# EAGLE library part ATSAM3S (library imu)
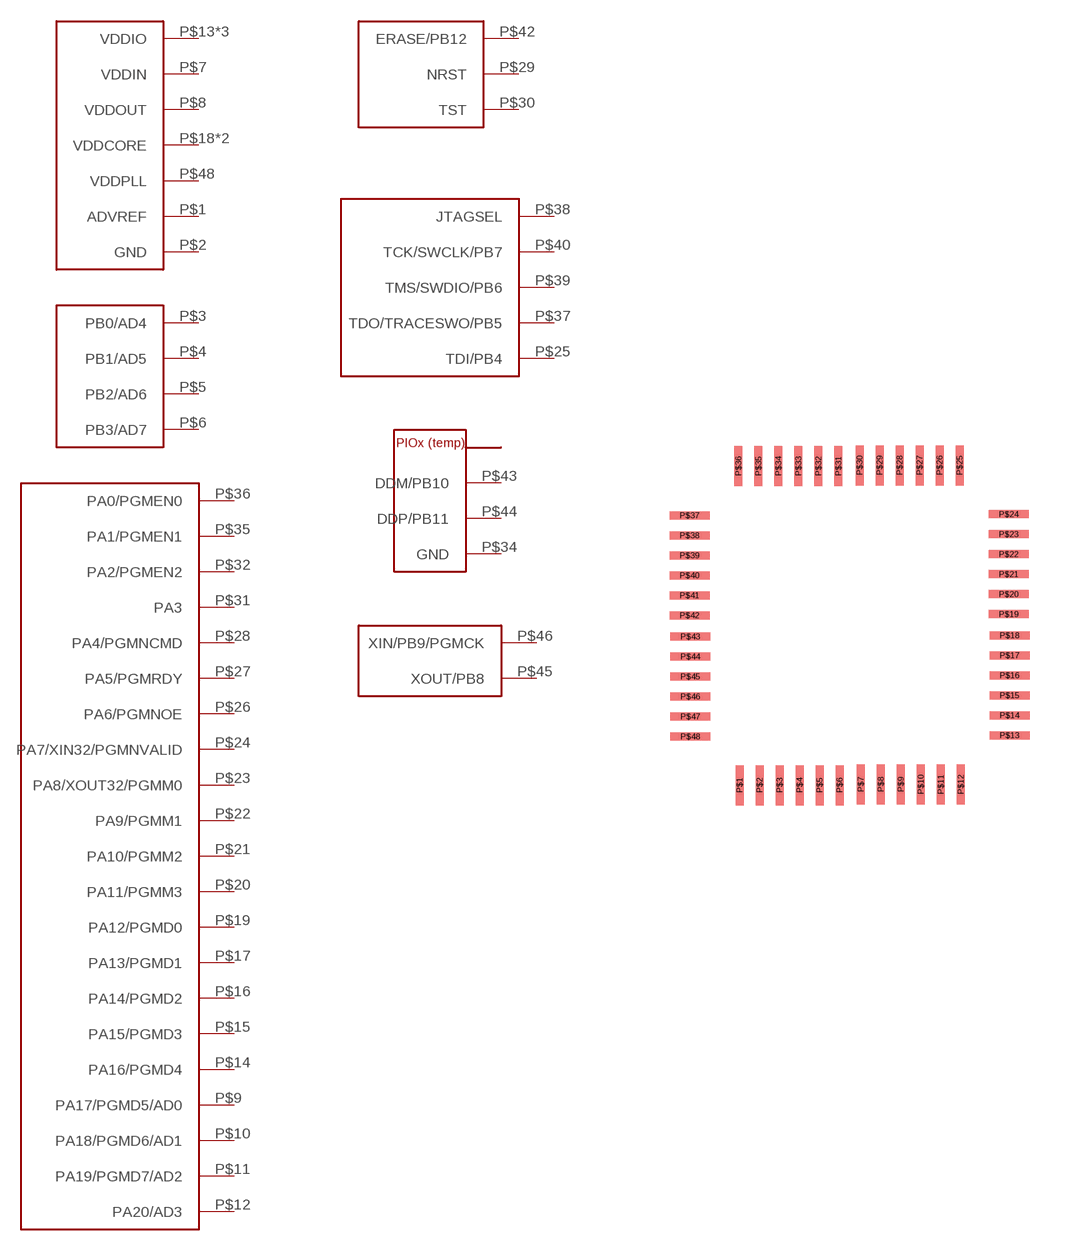
[diagram p2: symbol with the pads of 48-LQFP; footprint 48-LQFP]

Designator prefix -; gates G$1=ATSAM3S G$2=ATSAM3S1 G$3=ATSAM3S2 G$4=ATSAM3S3 G$5=ATSAM3S4MISC G$6=ATSAM3S6USB G$7=ATSAM3S5CLOCK

## ATSAM3S  [48-LQFP]
P$1  G$1:ADVREF
P$2  G$1:GND
P$3  G$2:PB0/AD4
P$4  G$2:PB1/AD5
P$5  G$2:PB2/AD6
P$6  G$2:PB3/AD7
P$7  G$1:VDDIN
P$8  G$1:VDDOUT
P$9  G$3:PA17/PGMD5/AD0
P$10  G$3:PA18/PGMD6/AD1
P$11  G$3:PA19/PGMD7/AD2
P$12  G$3:PA20/AD3
P$13  G$1:VDDIO
P$14  G$3:PA16/PGMD4
P$15  G$3:PA15/PGMD3
P$16  G$3:PA14/PGMD2
P$17  G$3:PA13/PGMD1
P$18  G$1:VDDCORE
P$19  G$3:PA12/PGMD0
P$20  G$3:PA11/PGMM3
P$21  G$3:PA10/PGMM2
P$22  G$3:PA9/PGMM1
P$23  G$3:PA8/XOUT32/PGMM0
P$24  G$3:PA7/XIN32/PGMNVALID
P$25  G$4:TDI/PB4
P$26  G$3:PA6/PGMNOE
P$27  G$3:PA5/PGMRDY
P$28  G$3:PA4/PGMNCMD
P$29  G$5:NRST
P$30  G$5:TST
P$31  G$3:PA3
P$32  G$3:PA2/PGMEN2
P$33  G$1:VDDIO
P$34  G$6:GND
P$35  G$3:PA1/PGMEN1
P$36  G$3:PA0/PGMEN0
P$37  G$4:TDO/TRACESWO/PB5
P$38  G$4:JTAGSEL
P$39  G$4:TMS/SWDIO/PB6
P$40  G$4:TCK/SWCLK/PB7
P$41  G$1:VDDCORE
P$42  G$5:ERASE/PB12
P$43  G$6:DDM/PB10
P$44  G$6:DDP/PB11
P$45  G$7:XOUT/PB8
P$46  G$7:XIN/PB9/PGMCK
P$47  G$1:VDDIO
P$48  G$1:VDDPLL

## Footprint 48-LQFP (pad centres in mm)
smd 0.2 x 1: P$1 -2.75,-4; P$2 -2.25,-4; P$3 -1.75,-4; P$4 -1.25,-4; P$5 -0.75,-4; P$6 -0.25,-4; P$7 0.28,-3.98; P$8 0.78,-3.98; P$9 1.28,-3.98; P$10 1.78,-3.98; P$11 2.28,-3.98; P$12 2.78,-3.98; P$25 2.75,4; P$26 2.25,4; P$27 1.75,4; P$28 1.25,4; P$29 0.75,4; P$30 0.25,4; P$31 -0.28,3.98; P$32 -0.78,3.98; P$33 -1.28,3.98; P$34 -1.78,3.98; P$35 -2.28,3.98; P$36 -2.78,3.98
smd 1 x 0.2: P$13 4,-2.75; P$14 4,-2.25; P$15 4,-1.75; P$16 4,-1.25; P$17 4,-0.75; P$18 4,-0.25; P$19 3.98,0.28; P$20 3.98,0.78; P$21 3.98,1.28; P$22 3.98,1.78; P$23 3.98,2.28; P$24 3.98,2.78; P$37 -4,2.75; P$38 -4,2.25; P$39 -4,1.75; P$40 -4,1.25; P$41 -4,0.75; P$42 -4,0.25; P$43 -3.98,-0.28; P$44 -3.98,-0.78; P$45 -3.98,-1.28; P$46 -3.98,-1.78; P$47 -3.98,-2.28; P$48 -3.98,-2.78